# Altium schematic symbol library !Connectors Rectangular Other.SchLib: 4 symbols
Pins are listed as number, name and electrical type; pins without a type are passive.

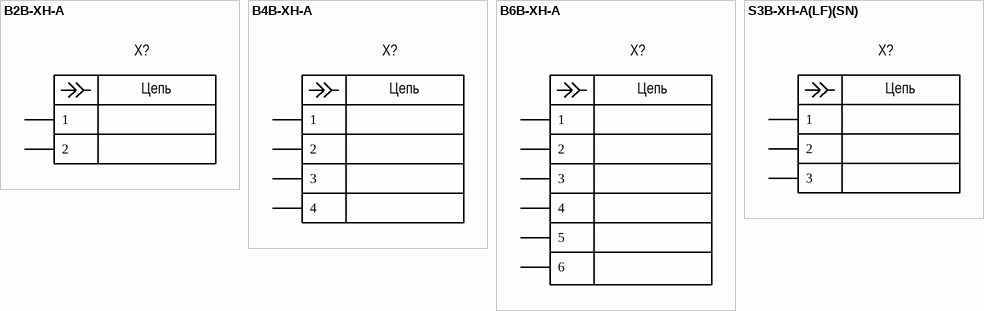
[diagram p0: symbols B2B-XH-A to S3B-XH-A(LF)(SN)]

## B2B-XH-A
designator X?  (value not drawn)
Connector Rectangular XH M 2P 2.50; Manufacturer: JST; Group: Mechanical; Pitch: 2.50mm; Positions: 2; Rows: 1; Current rating: 3A; Voltage rating: 250V; Dimension: 7.40mm x 5.750mm; Operating temperature: -25°C +85°C; Mounting type: Through hole; Package: B2B-XH-A; Part name: B2B-XH-A; Height: 7.00mm; Insulation color: Natural; Component: Connector Rectangular; Contact type: Male pin
footprint B2B-XH-AN (XH connector; Place for header 2pins 2.54 pitch)
pins: 1, 2
text: Цепь

## B4B-XH-A
designator X?  (value not drawn)
Connector Rectangular XH M 4P 2.50; Manufacturer: JST; Group: Mechanical; Pitch: 2.50mm; Positions: 4; Rows: 1; Current rating: 3A; Voltage rating: 250V; Dimension: 12.40mm x 5.750mm; Operating temperature: -25°C +85°C; Mounting type: Through hole; Package: B4B-XH-A; Part name: B4B-XH-A; Height: 7.00mm; Insulation color: Natural; Component: Connector Rectangular; Contact type: Male pin
footprint B4B-XH-AN (Footprint not found)
pins: 1, 2, 3, 4
text: Цепь

## B6B-XH-A
designator X?  (value not drawn)
Connector Rectangular XH M 6P 2.50; Manufacturer: JST; Group: Mechanical; Pitch: 2.50mm; Positions: 6; Rows: 1; Current rating: 3A; Voltage rating: 250V; Dimension: 17.40mm x 5.750mm; Operating temperature: -25°C +85°C; Mounting type: Through hole; Package: B6B-XH-A; Part name: B6B-XH-A; Height: 7.00mm; Insulation color: Natural; Component: Connector Rectangular; Contact type: Male pin
footprint B6B-XH-AN (Footprint not found)
pins: 1, 2, 3, 4, 5, 6
text: Цепь

## S3B-XH-A(LF)(SN)
designator X?  (value not drawn)
Connector Rectangular XH M 3P 2.50 RA; Manufacturer: JST; Group: Mechanical; Pitch: 2.50mm; Positions: 3; Rows: 1; Current rating: 3A; Voltage rating: 250V; Dimension: 9.80mm x 11.50mm; Operating temperature: -25°C +85°C; Mounting type: Through hole, right angle; Package: S3B-XH-A; Part name: S3B-XH-A(LF)(SN); Height: 6.10mm; Insulation color: Natural; Component: Connector Rectangular; Contact type: Male pin
footprint S3B-XH-A (XH connector; Place for header 3pins 2.54 pitch)
pins: 1, 2, 3
text: Цепь